# Altium footprint library ZD6-2W5.PcbLib: 1 footprints
Each footprint in its own frame and in the unit in brackets; x right, y up, seen from the top. Pads: shape width x height; smd on the part's side, far side on the other; paste and mask are expansions set on the pad; w line width, h text height; cw(c..) or ccw(c..) is an arc to the next point about the centre after c.
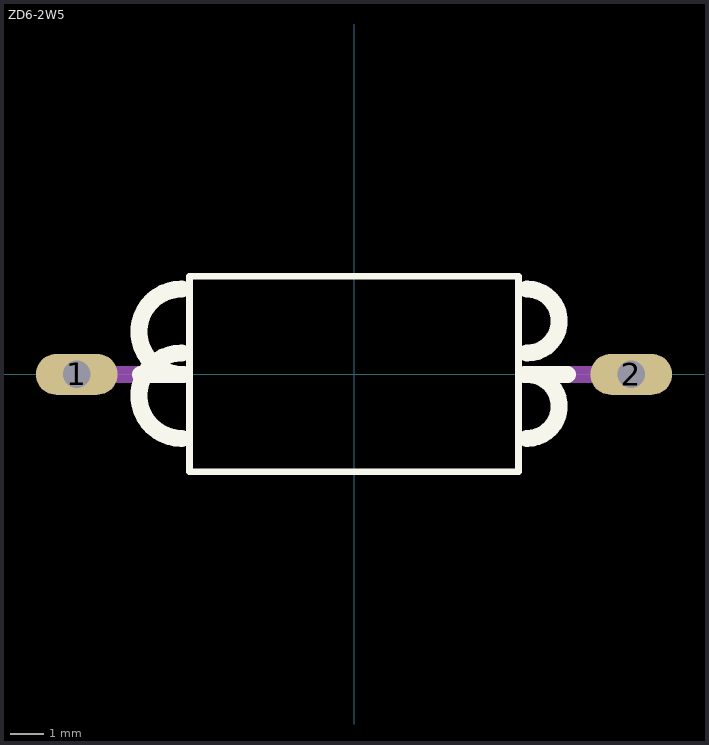
[diagram p0: the footprint, top view; thin cyan lines are the x and y axes]

## ZD6-2W5 [mil]
pads (2):
  oval 96x48 hole 32: 1(-325,0) 2(325,0)
Top Overlay:
  lines w8: -192.91,-114.17 193,-114.17 193,115 -192.91,115 -192.91,-114.17
  lines w20: -250,0 -202.13,0 ; -202.13,-75 cw(c-202.13,-25) -202.13,25 ; -202.13,100 ccw(c-202.13,50) -202.13,0 ; -200,0 -202.13,0 ; 200,0 203,0 ; 203,-75 ccw(c203,-37.5) 203,0 ; 203,25 ccw(c203,62.5) 203,100 ; 250,0 203,0
Mechanical 16:
  lines w20: -325,0 -250,0 ; 250,0 325,0